# EAGLE library part PSOC_10_PIN_HEADER_DEVICE (library psoc_cy8c4245lqi-483)
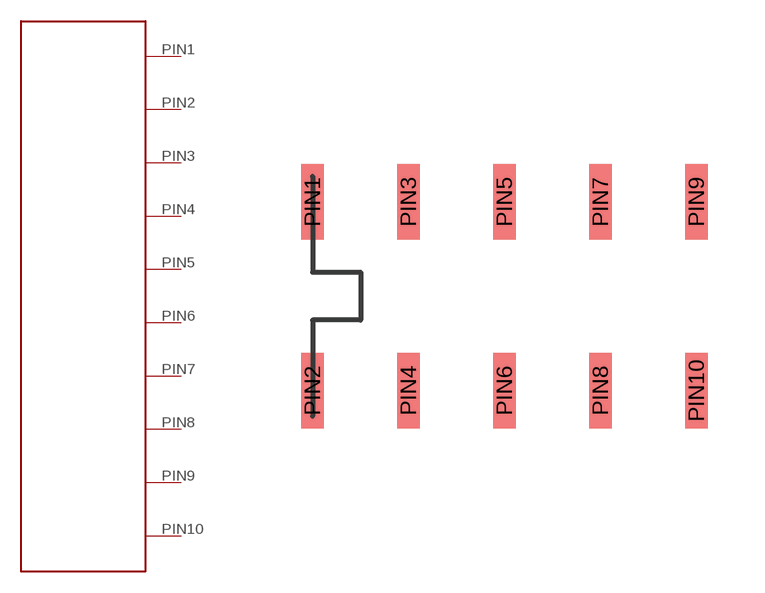
[diagram p1: symbol with the pads of PSOC_10_PIN_HEADER; footprint PSOC_10_PIN_HEADER]

Designator prefix -

## PSOC_10_PIN_HEADER_DEVICE  [PSOC_10_PIN_HEADER]
PIN1  3V3_AUX
PIN2  SWD_IO0
PIN3  GND
PIN4  SWD_CLK0
PIN5  GND
PIN6  NC
PIN7  GND
PIN8  NC2
PIN9  GND
PIN10  XRES

## Footprint PSOC_10_PIN_HEADER (pad centres in mm)
smd 0.6 x 2: PIN1 -5.08,2.5; PIN2 -5.08,-2.5; PIN3 -2.54,2.5; PIN4 -2.54,-2.5; PIN5 0,2.5; PIN6 0,-2.5; PIN7 2.54,2.5; PIN8 2.54,-2.5; PIN9 5.08,2.5; PIN10 5.08,-2.5